# Altium schematic symbol library CONNECTOR_USB.SchLib: 6 symbols
Pins are listed as number, name and electrical type; pins without a type are passive.

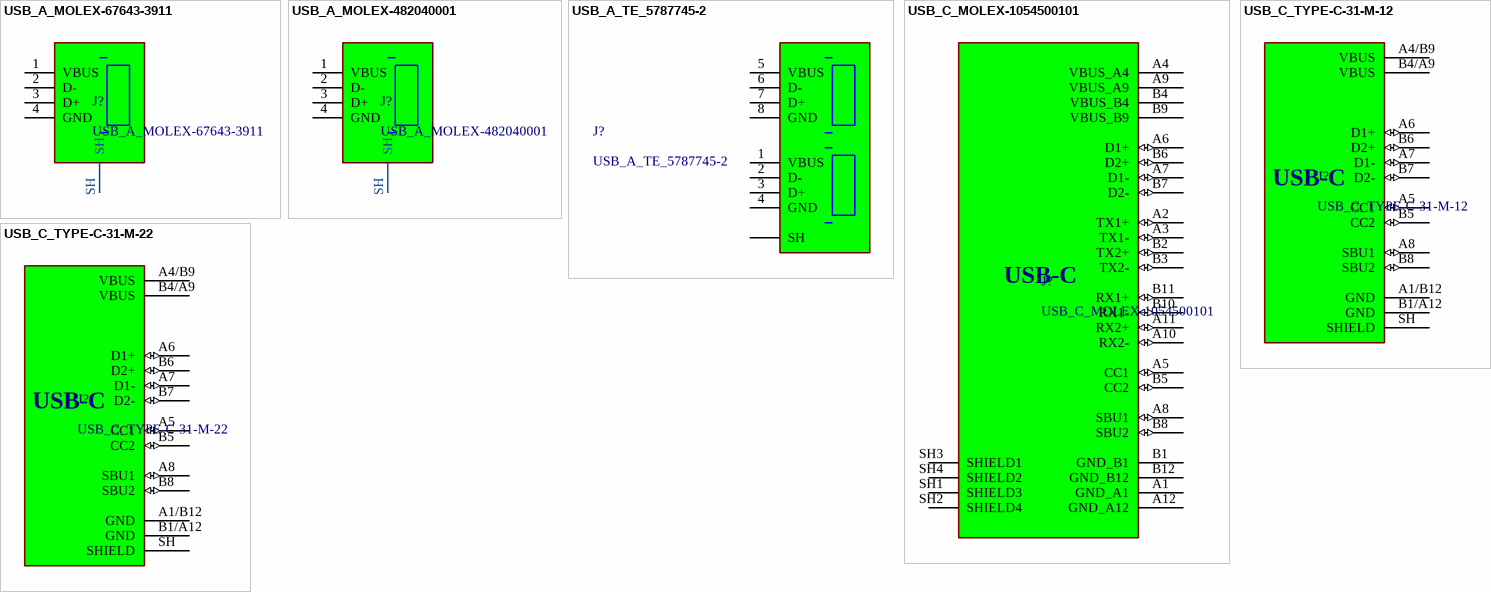
[diagram p0: symbols USB_A_MOLEX-67643-3911 to USB_C_TYPE-C-31-M-22]

## USB_A_MOLEX-67643-3911
designator J?
USB type-A Single Port MOLEX-67643-3911
footprint USBA_MOLEX-67643-3911
pins: 1 VBUS (power), 2 D- (power), 3 D+ (power), 4 GND (power), SH (power)

## USB_A_MOLEX-482040001
designator J?
USB type-A Single Port MOLEX-482040001
footprint USBA_MOLEX-482040001
pins: 1 VBUS (power), 2 D- (power), 3 D+ (power), 4 GND (power), SH (power)

## USB_A_TE_5787745-2
designator J?
USB type-A Dual Port TE_5787745-2
footprint USBA_DUAL_TE_5787745-2
pins: 1 VBUS (power), 2 D- (power), 3 D+ (power), 4 GND (power), 5 VBUS (power), 6 D- (power), 7 D+ (power), 8 GND (power), SH (power)

## USB_C_MOLEX-1054500101
designator J?
USB-C (USB TYPE-C) USB 3.2 Gen 2 (USB 3.1 Gen 2, Superspeed + (USB 3.1)) Receptacle Connector 24 Position Surface Mount, Right Angle; Through Hole; MPN: *; LCSC: *
footprint USB_C_MOLEX-1054500101
pins: A1 GND_A1 (power), A2 TX1+ (io), A3 TX1- (io), A4 VBUS_A4 (power), A5 CC1 (io), A6 D1+ (io), A7 D1- (io), A8 SBU1 (io), A9 VBUS_A9 (power), A10 RX2- (io), A11 RX2+ (io), A12 GND_A12 (power), B1 GND_B1 (power), B2 TX2+ (io), B3 TX2- (io), B4 VBUS_B4 (power), B5 CC2 (io), B6 D2+ (io), B7 D2- (io), B8 SBU2 (io), B9 VBUS_B9 (power), B10 RX1- (io), B11 RX1+ (io), B12 GND_B12 (power), SH1 SHIELD3, SH2 SHIELD4, SH3 SHIELD1, SH4 SHIELD2
text: USB-C

## USB_C_TYPE-C-31-M-12
designator J?
USB-C Receptacle 2.0 TYPE-C-31-M-12
footprint USB_C_TYPE-C-31-M-12
pins: A1/B12 GND (power), A4/B9 VBUS (power), A5 CC1 (io), A6 D1+ (io), A7 D1- (io), A8 SBU1 (io), B1/A12 GND (power), B4/A9 VBUS (power), B5 CC2 (io), B6 D2+ (io), B7 D2- (io), B8 SBU2 (io), SH SHIELD
text: USB-C

## USB_C_TYPE-C-31-M-22
designator J?
USB-C Receptacle 2.0 TYPE-C-31-M-22
footprint USB_C_TYPE-C-31-M-22
pins: A1/B12 GND (power), A4/B9 VBUS (power), A5 CC1 (io), A6 D1+ (io), A7 D1- (io), A8 SBU1 (io), B1/A12 GND (power), B4/A9 VBUS (power), B5 CC2 (io), B6 D2+ (io), B7 D2- (io), B8 SBU2 (io), SH SHIELD
text: USB-C